# Altium footprint library APC-817D1.PcbLib: 1 footprints
Each footprint in its own frame and in the unit in brackets; x right, y up, seen from the top. Pads: shape width x height; smd on the part's side, far side on the other; paste and mask are expansions set on the pad; w line width, h text height; cw(c..) or ccw(c..) is an arc to the next point about the centre after c.
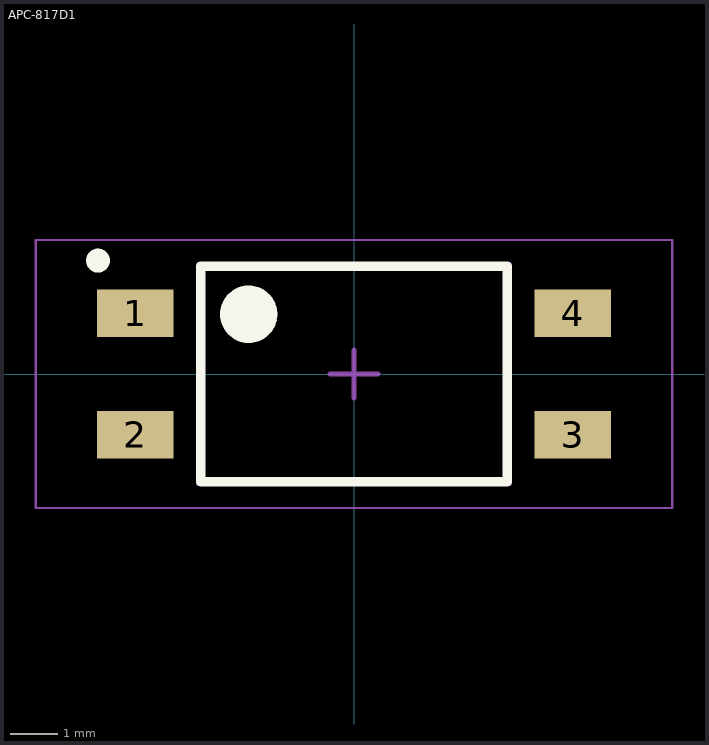
[diagram p0: the footprint, top view; thin cyan lines are the x and y axes]

## APC-817D1 [mm]
pads (4):
  rect 1.6x1 smd: 1(-4.575,1.27) 2(-4.575,-1.27) 3(4.575,-1.27) 4(4.575,1.27)
Top Overlay:
  circle w0.6: c-2.2,1.25 r0.3
  circle w0.25: c-5.35,2.37 r0.125
  lines w0.2: -3.2,-2.25 3.2,-2.25 3.2,2.25 -3.2,2.25 -3.2,-2.25
Mechanical 13:
  circle w0.1: c-2.2,1.25 r0.5
  lines w0.1: -3.25,-2.29 -3.25,2.29 3.25,2.29 3.25,-2.29 -3.25,-2.29
Mechanical 15:
  lines w0.05: -6.65,-2.8 -6.65,2.8 6.65,2.8 6.65,-2.8 -6.65,-2.8
  lines w0.1: -0.5,0 0.5,0 ; 0,-0.5 0,0.5
3D body: height 3.5, standoff 0.1, extent -3.25,-2.3 3.25,2.29